# Altium schematic symbol library SMTSO2020CTJ1_SMTSO2020CTJ.SCHLIB: 1 symbol
Pins are listed as number, name and electrical type; pins without a type are passive.

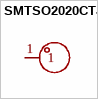
[diagram p0: symbol SMTSO2020CTJ]

## SMTSO2020CTJ
designator U??  (value not drawn)
Manufacturer: Sinhoo(雄和远景); Add into BOM: yes; specifications: M2X2; surface treatment: 镀锡; Symbol: SMTSO2020CTJ; Device: SMTSO2020CTJ; LCSC Part Name: 雄和远景，电路板表贴圆螺母柱，M2X2，铜镀锡,1个; Supplier Part: C2915626; Manufacturer Part: SMTSO2020CTJ; Supplier Footprint: -; JLCPCB Part Class: Extended Part; Datasheet: https://atta.szlcsc.com/upload/public/pdf/source/20211122/17CF5E24EB4D4DC090A80DE3D7DE5E21.pdf; Supplier: LCSC; Convert to PCB: yes; Product Description: -; material quality: -; model: SMTSO2020CTJ; brand: Sinhoo(雄和远景)
footprint SMD_BD5.6-L5.6-W5.6-D3.6
3D model SMD_BD5.6-L5.6-W5.6-D3.6
pins: 1